# Altium footprint library BC501SM-TR.PcbLib: 2 footprints
Each footprint in its own frame and in the unit in brackets; x right, y up, seen from the top. Pads: shape width x height; smd on the part's side, far side on the other; paste and mask are expansions set on the pad; w line width, h text height; cw(c..) or ccw(c..) is an arc to the next point about the centre after c.
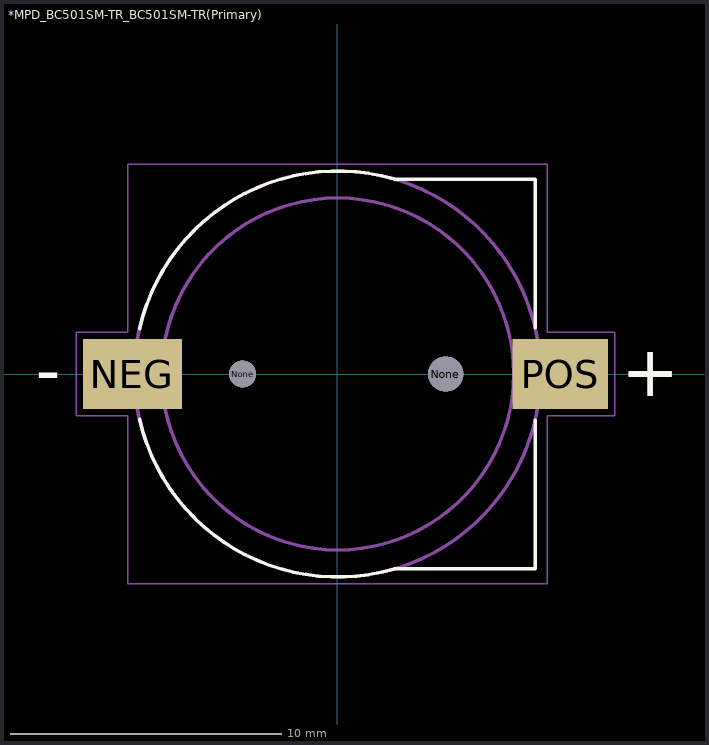
[diagram p0: the footprints below, top view; thin cyan lines are the x and y axes]

## *MPD_BC501SM-TR_BC501SM-TR(Primary) [mm]
pads (4):
  rect 3.66x2.6 smd: NEG(-7.57,0)
  round 1 hole 1 unplated: None(-3.5,0)
  round 1.3 hole 1.3 unplated: None(4,0)
  rect 3.54x2.6 smd: POS(8.23,0)
Top Overlay:
  lines w0.127: -7.305,-1.679 ccw(c0.01,0.01) 2.079,-7.206 ; -7.305,1.679 cw(c0.01,-0.01) 2.079,7.206 ; 2.1,-7.2 7.3,-7.2 7.3,-1.7 ; 2.1,7.2 7.3,7.2 7.3,1.7
  text "+" at 10.49,-0.82 h1.88
  text "-" at -11.14,-0.77 h1.88
Mechanical 4:
  circle w0.127: c0,0 r7.5
  circle w0.127: c0.01,0 r6.5
  circle w0.127: c0,0 r7.5
  circle w0.127: c0.01,0 r6.5
Mechanical 16:
  lines w0.05: -9.65,-1.55 -7.75,-1.55 -7.75,-7.75 7.75,-7.75 7.75,-1.55 10.25,-1.55 10.25,1.55 7.75,1.55 7.75,7.75 -7.75,7.75 -7.75,1.55 -9.65,1.55 -9.65,-1.55
3D body "User Library-Battery Holder for CR1220 SMD.STEP": height 4.25, standoff -0.5, extent -9.019,-7.383 9.781,7.366

## PCBComponent_1 [mm]